# Altium schematic symbol library SCH - MCU - INFINEON - INFINEON S6E2HG4G0XXV2 LQFP-120.SchLib: 1 symbol
Pins are listed as number, name and electrical type; pins without a type are passive.

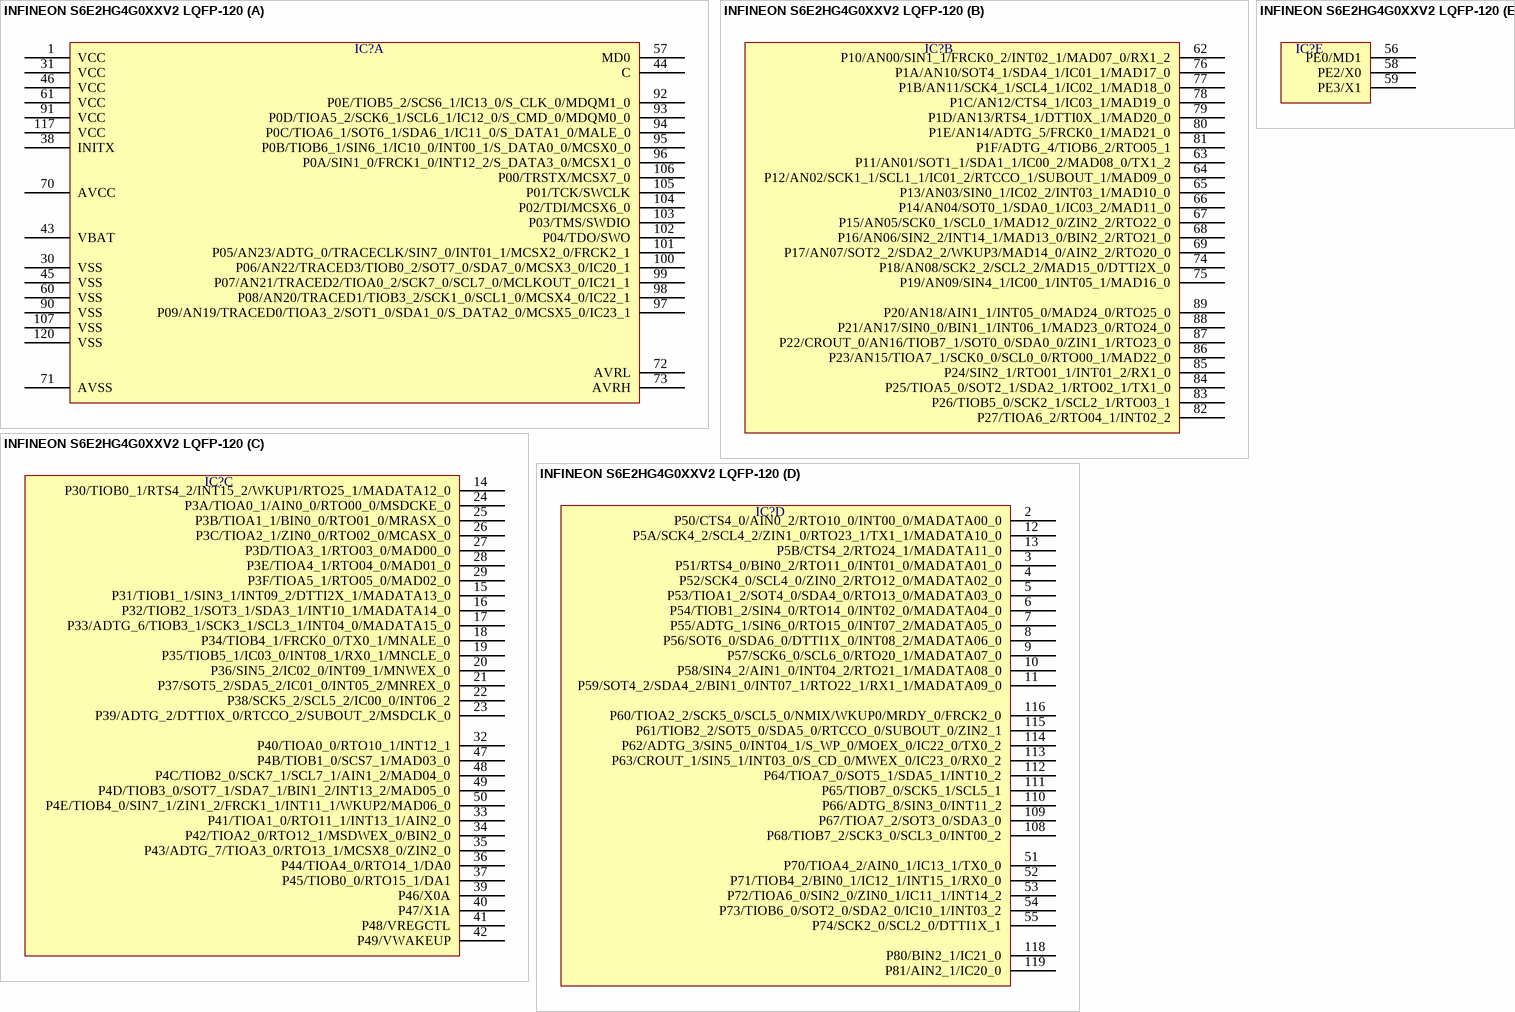
[diagram p0: symbol INFINEON S6E2HG4G0XXV2 LQFP-120]

## INFINEON S6E2HG4G0XXV2 LQFP-120
designator IC?  (value not drawn)
part A pins: 1 VCC, 30 VSS, 31 VCC, 38 INITX, 43 VBAT, 44 C, 45 VSS, 46 VCC, 57 MD0, 60 VSS, 61 VCC, 70 AVCC, 71 AVSS, 72 AVRL, 73 AVRH, 90 VSS, 91 VCC, 92 P0E/TIOB5_2/SCS6_1/IC13_0/S_CLK_0/MDQM1_0, 93 P0D/TIOA5_2/SCK6_1/SCL6_1/IC12_0/S_CMD_0/MDQM0_0, 94 P0C/TIOA6_1/SOT6_1/SDA6_1/IC11_0/S_DATA1_0/MALE_0, 95 P0B/TIOB6_1/SIN6_1/IC10_0/INT00_1/S_DATA0_0/MCSX0_0, 96 P0A/SIN1_0/FRCK1_0/INT12_2/S_DATA3_0/MCSX1_0, 97 P09/AN19/TRACED0/TIOA3_2/SOT1_0/SDA1_0/S_DATA2_0/MCSX5_0/IC23_1, 98 P08/AN20/TRACED1/TIOB3_2/SCK1_0/SCL1_0/MCSX4_0/IC22_1, 99 P07/AN21/TRACED2/TIOA0_2/SCK7_0/SCL7_0/MCLKOUT_0/IC21_1, 100 P06/AN22/TRACED3/TIOB0_2/SOT7_0/SDA7_0/MCSX3_0/IC20_1, 101 P05/AN23/ADTG_0/TRACECLK/SIN7_0/INT01_1/MCSX2_0/FRCK2_1, 102 P04/TDO/SWO, 103 P03/TMS/SWDIO, 104 P02/TDI/MCSX6_0, 105 P01/TCK/SWCLK, 106 P00/TRSTX/MCSX7_0, 107 VSS, 117 VCC, 120 VSS
part B pins: 62 P10/AN00/SIN1_1/FRCK0_2/INT02_1/MAD07_0/RX1_2, 63 P11/AN01/SOT1_1/SDA1_1/IC00_2/MAD08_0/TX1_2, 64 P12/AN02/SCK1_1/SCL1_1/IC01_2/RTCCO_1/SUBOUT_1/MAD09_0, 65 P13/AN03/SIN0_1/IC02_2/INT03_1/MAD10_0, 66 P14/AN04/SOT0_1/SDA0_1/IC03_2/MAD11_0, 67 P15/AN05/SCK0_1/SCL0_1/MAD12_0/ZIN2_2/RTO22_0, 68 P16/AN06/SIN2_2/INT14_1/MAD13_0/BIN2_2/RTO21_0, 69 P17/AN07/SOT2_2/SDA2_2/WKUP3/MAD14_0/AIN2_2/RTO20_0, 74 P18/AN08/SCK2_2/SCL2_2/MAD15_0/DTTI2X_0, 75 P19/AN09/SIN4_1/IC00_1/INT05_1/MAD16_0, 76 P1A/AN10/SOT4_1/SDA4_1/IC01_1/MAD17_0, 77 P1B/AN11/SCK4_1/SCL4_1/IC02_1/MAD18_0, 78 P1C/AN12/CTS4_1/IC03_1/MAD19_0, 79 P1D/AN13/RTS4_1/DTTI0X_1/MAD20_0, 80 P1E/AN14/ADTG_5/FRCK0_1/MAD21_0, 81 P1F/ADTG_4/TIOB6_2/RTO05_1, 82 P27/TIOA6_2/RTO04_1/INT02_2, 83 P26/TIOB5_0/SCK2_1/SCL2_1/RTO03_1, 84 P25/TIOA5_0/SOT2_1/SDA2_1/RTO02_1/TX1_0, 85 P24/SIN2_1/RTO01_1/INT01_2/RX1_0, 86 P23/AN15/TIOA7_1/SCK0_0/SCL0_0/RTO00_1/MAD22_0, 87 P22/CROUT_0/AN16/TIOB7_1/SOT0_0/SDA0_0/ZIN1_1/RTO23_0, 88 P21/AN17/SIN0_0/BIN1_1/INT06_1/MAD23_0/RTO24_0, 89 P20/AN18/AIN1_1/INT05_0/MAD24_0/RTO25_0
part C pins: 14 P30/TIOB0_1/RTS4_2/INT15_2/WKUP1/RTO25_1/MADATA12_0, 15 P31/TIOB1_1/SIN3_1/INT09_2/DTTI2X_1/MADATA13_0, 16 P32/TIOB2_1/SOT3_1/SDA3_1/INT10_1/MADATA14_0, 17 P33/ADTG_6/TIOB3_1/SCK3_1/SCL3_1/INT04_0/MADATA15_0, 18 P34/TIOB4_1/FRCK0_0/TX0_1/MNALE_0, 19 P35/TIOB5_1/IC03_0/INT08_1/RX0_1/MNCLE_0, 20 P36/SIN5_2/IC02_0/INT09_1/MNWEX_0, 21 P37/SOT5_2/SDA5_2/IC01_0/INT05_2/MNREX_0, 22 P38/SCK5_2/SCL5_2/IC00_0/INT06_2, 23 P39/ADTG_2/DTTI0X_0/RTCCO_2/SUBOUT_2/MSDCLK_0, 24 P3A/TIOA0_1/AIN0_0/RTO00_0/MSDCKE_0, 25 P3B/TIOA1_1/BIN0_0/RTO01_0/MRASX_0, 26 P3C/TIOA2_1/ZIN0_0/RTO02_0/MCASX_0, 27 P3D/TIOA3_1/RTO03_0/MAD00_0, 28 P3E/TIOA4_1/RTO04_0/MAD01_0, 29 P3F/TIOA5_1/RTO05_0/MAD02_0, 32 P40/TIOA0_0/RTO10_1/INT12_1, 33 P41/TIOA1_0/RTO11_1/INT13_1/AIN2_0, 34 P42/TIOA2_0/RTO12_1/MSDWEX_0/BIN2_0, 35 P43/ADTG_7/TIOA3_0/RTO13_1/MCSX8_0/ZIN2_0, 36 P44/TIOA4_0/RTO14_1/DA0, 37 P45/TIOB0_0/RTO15_1/DA1, 39 P46/X0A, 40 P47/X1A, 41 P48/VREGCTL, 42 P49/VWAKEUP, 47 P4B/TIOB1_0/SCS7_1/MAD03_0, 48 P4C/TIOB2_0/SCK7_1/SCL7_1/AIN1_2/MAD04_0, 49 P4D/TIOB3_0/SOT7_1/SDA7_1/BIN1_2/INT13_2/MAD05_0, 50 P4E/TIOB4_0/SIN7_1/ZIN1_2/FRCK1_1/INT11_1/WKUP2/MAD06_0
part D pins: 2 P50/CTS4_0/AIN0_2/RTO10_0/INT00_0/MADATA00_0, 3 P51/RTS4_0/BIN0_2/RTO11_0/INT01_0/MADATA01_0, 4 P52/SCK4_0/SCL4_0/ZIN0_2/RTO12_0/MADATA02_0, 5 P53/TIOA1_2/SOT4_0/SDA4_0/RTO13_0/MADATA03_0, 6 P54/TIOB1_2/SIN4_0/RTO14_0/INT02_0/MADATA04_0, 7 P55/ADTG_1/SIN6_0/RTO15_0/INT07_2/MADATA05_0, 8 P56/SOT6_0/SDA6_0/DTTI1X_0/INT08_2/MADATA06_0, 9 P57/SCK6_0/SCL6_0/RTO20_1/MADATA07_0, 10 P58/SIN4_2/AIN1_0/INT04_2/RTO21_1/MADATA08_0, 11 P59/SOT4_2/SDA4_2/BIN1_0/INT07_1/RTO22_1/RX1_1/MADATA09_0, 12 P5A/SCK4_2/SCL4_2/ZIN1_0/RTO23_1/TX1_1/MADATA10_0, 13 P5B/CTS4_2/RTO24_1/MADATA11_0, 51 P70/TIOA4_2/AIN0_1/IC13_1/TX0_0, 52 P71/TIOB4_2/BIN0_1/IC12_1/INT15_1/RX0_0, 53 P72/TIOA6_0/SIN2_0/ZIN0_1/IC11_1/INT14_2, 54 P73/TIOB6_0/SOT2_0/SDA2_0/IC10_1/INT03_2, 55 P74/SCK2_0/SCL2_0/DTTI1X_1, 108 P68/TIOB7_2/SCK3_0/SCL3_0/INT00_2, 109 P67/TIOA7_2/SOT3_0/SDA3_0, 110 P66/ADTG_8/SIN3_0/INT11_2, 111 P65/TIOB7_0/SCK5_1/SCL5_1, 112 P64/TIOA7_0/SOT5_1/SDA5_1/INT10_2, 113 P63/CROUT_1/SIN5_1/INT03_0/S_CD_0/MWEX_0/IC23_0/RX0_2, 114 P62/ADTG_3/SIN5_0/INT04_1/S_WP_0/MOEX_0/IC22_0/TX0_2, 115 P61/TIOB2_2/SOT5_0/SDA5_0/RTCCO_0/SUBOUT_0/ZIN2_1, 116 P60/TIOA2_2/SCK5_0/SCL5_0/NMIX/WKUP0/MRDY_0/FRCK2_0, 118 P80/BIN2_1/IC21_0, 119 P81/AIN2_1/IC20_0
part E pins: 56 PE0/MD1, 58 PE2/X0, 59 PE3/X1